# Altium schematic symbol library BH1750FVI.SchLib: 1 symbol
Pins are listed as number, name and electrical type; pins without a type are passive.

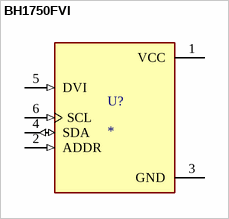
[diagram p0: symbol BH1750FVI]

## BH1750FVI
designator U?
Light to Digital Ambient Light Sensor Digital O/P 1lux to 65535lux 6-Pin WSOF Embossed T/R; MF: {'manufacturer': u'Rohm'}; MP: BH1750FVI-TR; Value: *; Package: None; Price: None; Availability: Unavailable; Supplier 1: RSComponents
footprint XDCR_BH1750FVI-TR
pins: 1 VCC (power), 2 ADDR (in), 3 GND (power), 4 SDA (io), 5 DVI (in), 6 SCL (in)